# Altium footprint library J 继电器.PcbLib: 24 footprints (part 2 of 2)
Each footprint in its own frame and in the unit in brackets; x right, y up, seen from the top. Pads: shape width x height; smd on the part's side, far side on the other; paste and mask are expansions set on the pad; w line width, h text height; cw(c..) or ccw(c..) is an arc to the next point about the centre after c.
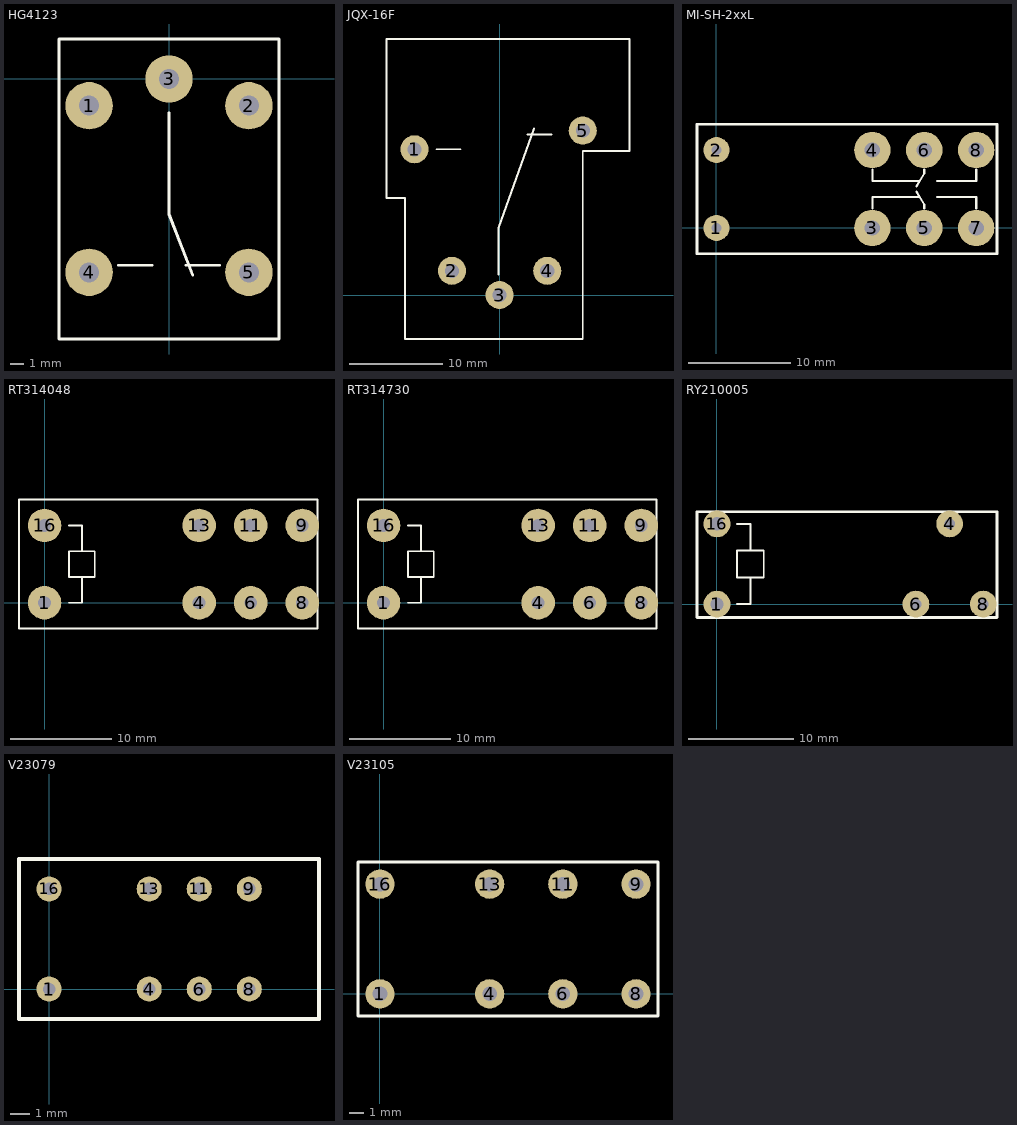
[diagram p1: the footprints below, top view; thin cyan lines are the x and y axes]

## HG4123 [mil] "继电器"
pads (5):
  round 140 hole 59: 1(-236,-79) 2(236,-79) 3(0,0) 4(-236,-571) 5(236,-571)
Top Overlay:
  lines w8: -325,-768 324,-768 ; -325,-767 -325,118 324,118 ; -150,-550 -50,-550 ; 0,-100 0,-400 70,-580 ; 50,-550 150,-550 ; 325,-768 325,118
Bottom Overlay:
  lines w8: -150,-550 -50,-550 ; 0,-100 0,-400 70,-580 ; 50,-550 150,-550

## JQX-16F [mm] "继电器"
pads (5):
  round 3 hole 1.499: 1(-9.1,15.6) 2(-5.1,2.6) 3(0,0) 4(5.1,2.6) 5(8.9,17.6)
Top Overlay:
  lines w0.203: -6.74,15.6 -4.2,15.6 ; -0.1,2.18 -0.1,7.165 3.669,17.846 ; 3,17.2 5.54,17.2 ; 8.9,-4.7 -10.1,-4.7 -10.1,10.4 -12.1,10.4 -12.1,27.4 13.9,27.4 13.9,15.4 8.9,15.4 8.9,-4.6
Bottom Overlay:
  lines w0.203: -6.84,15.9 -4.3,15.9 ; 0,2.4 0,7.385 3.769,18.066 ; 3,17.5 5.54,17.5

## MI-SH-2xxL [mil] "继电器"
pads (8):
  round 100 hole 39: 1(0,0) 2(0,300)
  round 140 hole 59: 3(600,0) 4(600,300) 5(800,0) 6(800,300) 7(1000,0) 8(1000,300)
Top Overlay:
  lines w8: 600,75 600,120 781.79,120 ; 600,225 600,180 781.79,180 ; 770,140 800,90 800,75 ; 770,160 800,210 800,225 ; 850,120 1000,120 1000,75 ; 850,180 1000,180 1000,225
  lines w10: -75,-100 -75,400 1080,400 1080,-100 -75,-100
Bottom Overlay:
  lines w8: 600,75 600,120 781.79,120 ; 600,225 600,180 781.79,180 ; 770,140 800,90 800,75 ; 770,160 800,210 800,225 ; 850,120 1000,120 1000,75 ; 850,180 1000,180 1000,225

## RT314048 [mil]
pads (8):
  round 130 hole 50: 1(0,0) 4(600,0) 6(800,0) 8(1000,0) 9(1000,300) 11(800,300) 13(600,300) 16(0,300)
Top Overlay:
  lines w7: 95,0 145,0 145,100 ; 95,300 145,300 145,200 ; 95,100 195,100 195,200 95,200 95,100
  lines w8: -99.21,-99.21 1060,-99.21 1060,400 -99.21,400 -99.21,-99.21

## RT314730 [mil]
pads (8):
  round 130 hole 50: 1(0,0) 4(600,0) 6(800,0) 8(1000,0) 9(1000,300) 11(800,300) 13(600,300) 16(0,300)
Top Overlay:
  lines w7: 95,0 145,0 145,100 ; 95,300 145,300 145,200 ; 95,100 95,200 195,200 195,100 95,100
  lines w8: -99.21,-99.21 -99.21,400 1060,400 1060,-99.21 -99.21,-99.21

## RY210005 [mil]
pads (5):
  round 100 hole 50: 1(0,0) 16(0,300)
  round 100 hole 40: 4(870.08,300) 6(744.09,0) 8(996.06,0)
Top Overlay:
  lines w7: 75,0 125,0 125,100 ; 75,300 125,300 125,200 ; 75,100 75,200 175,200 175,100 75,100
  lines w10: -74.8,-50 1047.24,-50 1047.24,345 -74.8,345 -74.8,-48.7

## V23079 [mil]
pads (8):
  round 50 hole 25: 1(0,0) 4(200,0) 6(300,0) 8(400,0) 9(400,200) 11(300,200) 13(200,200) 16(0,200)
Top Overlay:
  lines w8: -60,-60 539.21,-60 539.21,260 -60,260 -60,-60

## V23105 [mil]
pads (8):
  round 80 hole 40: 1(0,0) 4(300,0) 6(500,0) 8(700,0) 9(700,300) 11(500,300) 13(300,300) 16(0,300)
Top Overlay:
  lines w8: -60,-60 760,-60 760,360 -60,360 -60,-60